# Altium schematic symbol library SPARKFUN_FLIR_DEV_KIT.SchLib: 1 symbol
Pins are listed as number, name and electrical type; pins without a type are passive.

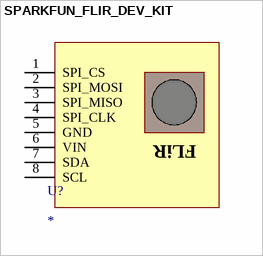
[diagram p0: symbol SPARKFUN_FLIR_DEV_KIT]

## SPARKFUN_FLIR_DEV_KIT
designator U?
pins: 1 SPI_CS, 2 SPI_MOSI, 3 SPI_MISO, 4 SPI_CLK, 5 GND, 6 VIN, 7 SDA, 8 SCL
text: FLiR